# Altium schematic symbol library attin84_f.SchLib: 1 symbol
Pins are listed as number, name and electrical type; pins without a type are passive.

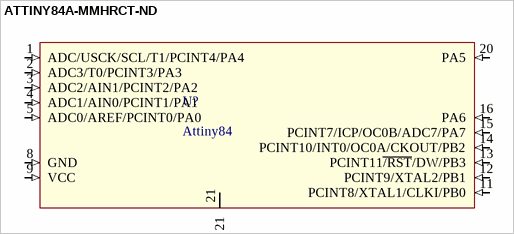
[diagram p0: symbol ATTINY84A-MMHRCT-ND]

## ATTINY84A-MMHRCT-ND
designator U?, comment Attiny84
Attiny84 3x3mm 20 pin QFN
footprint QFN20-3x3 (QFN, 20-Leads, Body 2.95x2.95mm, Pitch 0.45mm, Thermal Pad 1.30x1.30mm, IPC Medium Density)
pins: 1 ADC/USCK/SCL/T1/PCINT4/PA4 (in), 2 ADC3/T0/PCINT3/PA3 (in), 3 ADC2/AIN1/PCINT2/PA2 (in), 4 ADC1/AIN0/PCINT1/PA1 (in), 5 ADC0/AREF/PCINT0/PA0 (in), 6 DNC (in) hidden, 7 DNC (in) hidden, 8 GND (in), 9 VCC (in), 10 DNC (in) hidden, 11 PCINT8/XTAL1/CLKI/PB0 (in), 12 PCINT9/XTAL2/PB1 (in), 13 PCINT11~{/RST}/DW/PB3 (in), 14 PCINT10/INT0/OC0A/CKOUT/PB2 (in), 15 PCINT7/ICP/OC0B/ADC7/PA7 (in), 16 PA6 (in), 17 DNC (in) hidden, 18 DNC (in) hidden, 19 DNC (in) hidden, 20 PA5 (in), 21